# Altium footprint library Sheet.PcbLib: 48 footprints (part 2 of 3)
Each footprint in its own frame and in the unit in brackets; x right, y up, seen from the top. Pads: shape width x height; smd on the part's side, far side on the other; paste and mask are expansions set on the pad; w line width, h text height; cw(c..) or ccw(c..) is an arc to the next point about the centre after c.
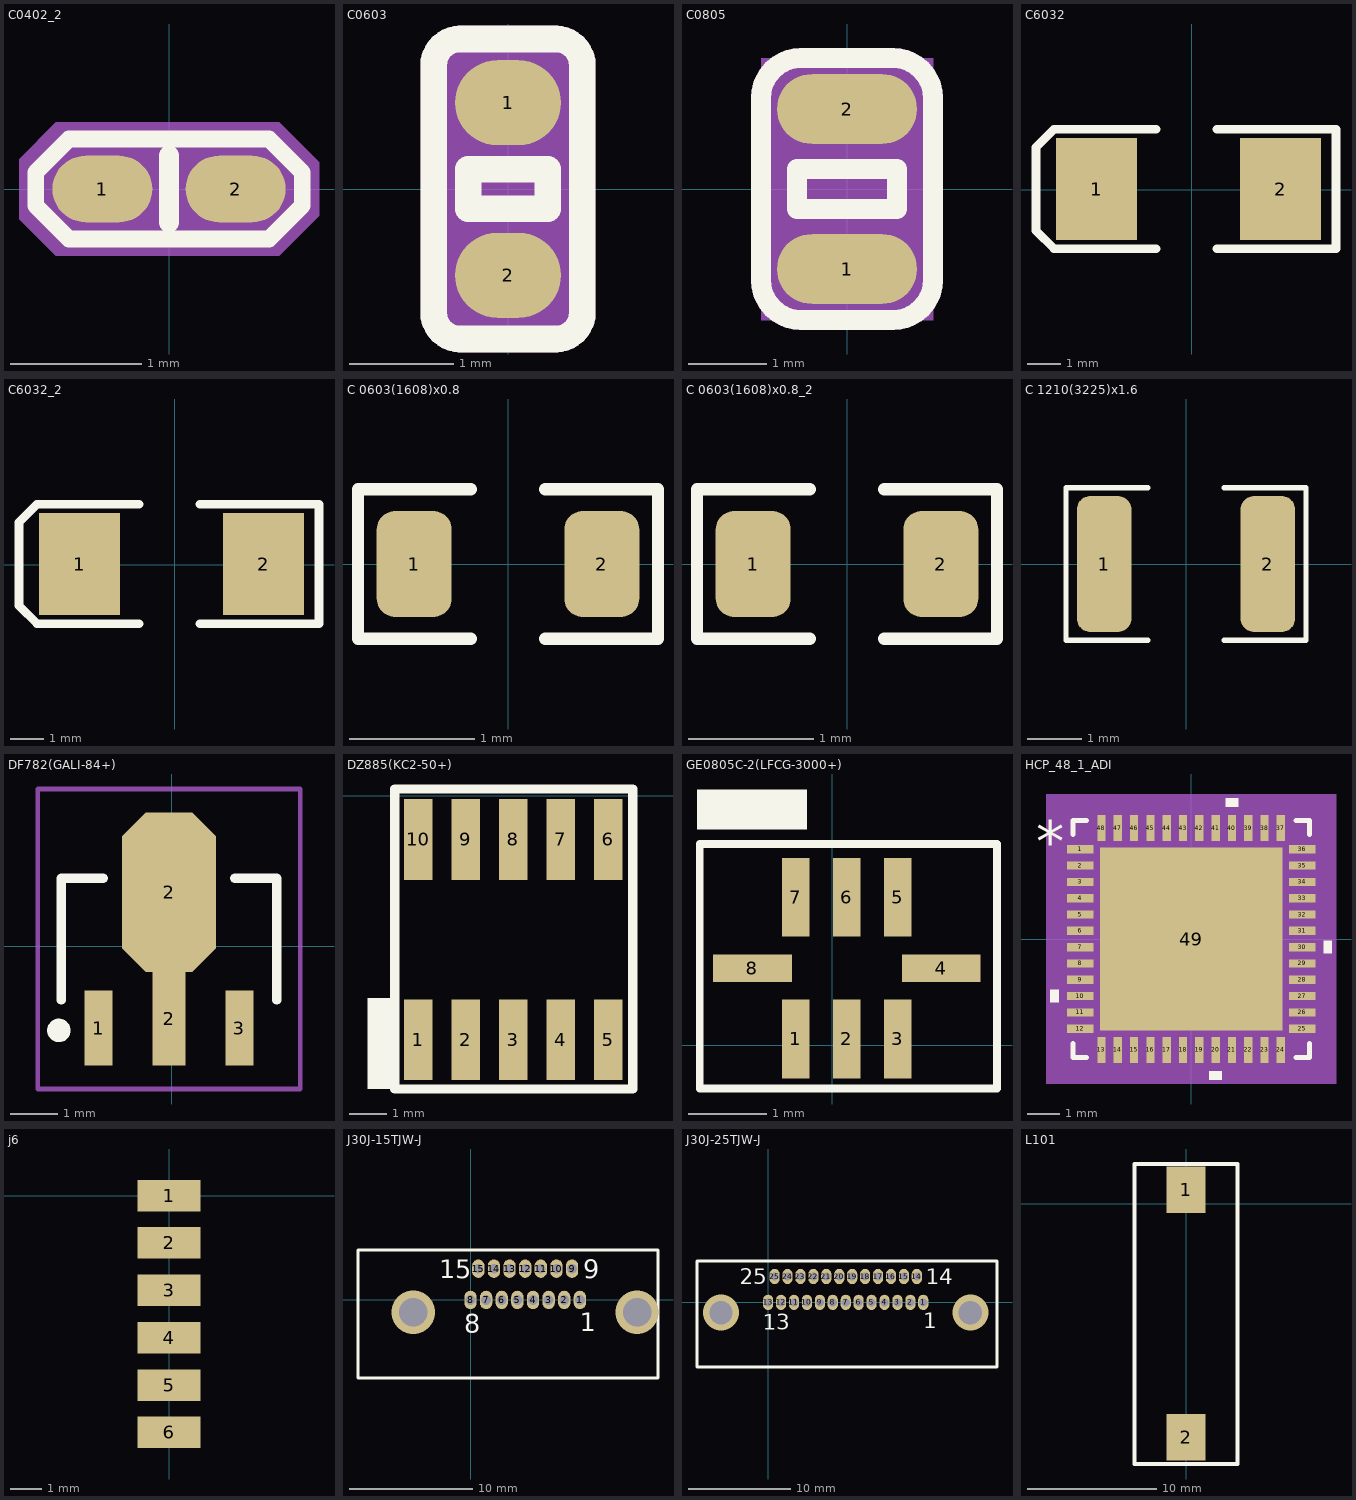
[diagram p1: the footprints below, top view; thin cyan lines are the x and y axes]

## C0402_2 [mil]
pads (2):
  oval 30x20 smd: 1(-20,0) 2(20,0)
Top Overlay:
  lines w5: -40,-5 -40,5 -30,15 30,15 40,5 40,-5 30,-15 -30,-15 -40,-5
  lines w6: 0,-10 0,10
Mechanical 5:
  lines w5: -37.5,-7.5 -40,-5 -40,5 -37.5,7.5 ; -32.5,-12.5 -30,-15 30,-15 32.5,-12.5 ; -32.5,12.5 -30,15 30,15 32.5,12.5 ; 37.5,-7.5 40,-5 40,5 37.5,7.5
  lines w6: 0,-10 0,10
Mechanical 14:
  text "1" at -10,0 h25
  text "2" at 30,0 h25
Mechanical 16:
  region: 29,-12 36,-5 36,12 -29,12 -37,4 -37,-4 -29,-12
  pour cut-out: -34,-20 33,-20 45,-8 45,8 33,20 -34,20 -45,9 -45,-9
  lines w1: -20,-10 -20,10 20,10 20,-10 -20,-10
  lines w5: -40,-5 -40,5 -30,15 30,15 40,5 40,-5 30,-15 -30,-15 -40,-5
  lines w6: 0,-10 0,10
3D body: height 150, standoff 0, extent -37,-12 36,12

## C0603 [mil] "C0603"
pads (2):
  oval 40x32 smd: 1(0,32.5) 2(0,-32.5)
Top Overlay:
  lines w10: -28,-46.5 ccw(c-18,-46.5) -18,-56.5 18,-56.5 ccw(c18,-46.5) 28,-46.5 28,46.5 ccw(c18,46.5) 18,56.5 -18,56.5 ccw(c-18,46.5) -28,46.5 -28,-46.5 ; -15,-7.5 15,-7.5 15,7.5 -15,7.5 -15,-7.5
Mechanical 5:
  lines w10: -28,-46.5 ccw(c-18,-46.5) -18,-56.5 18,-56.5 ccw(c18,-46.5) 28,-46.5 28,46.5 ccw(c18,46.5) 18,56.5 -18,56.5 ccw(c-18,46.5) -28,46.5 -28,-46.5 ; -15,-7.5 -15,7.5 15,7.5 15,-7.5 -15,-7.5
Mechanical 14:
  text "2" at 0,-21.3 h28
  text "1" at 0,43.7 h28
Mechanical 16:
  region: -17.13,-33.46 17.13,-33.46 17.13,33.46 -17.13,33.46
  pour cut-out: 28,56.5 28,-56.5 -28,-56.5 -28,56.5
  lines w1: -17.13,-33.46 17.13,-33.46 17.13,33.46 -17.13,33.46 -17.13,-33.46
3D body: height 150, standoff 0, extent -17.13,-33.46 17.13,33.46

## C0805 [mil] "C0805"
pads (2):
  oval 70x35 smd: 1(0,-40) 2(0,40)
Top Overlay:
  lines w10: -43,-45.5 ccw(c-23,-45.5) -23,-65.5 23,-65.5 ccw(c23,-45.5) 43,-45.5 43,45.5 ccw(c23,45.5) 23,65.5 -23,65.5 ccw(c-23,45.5) -43,45.5 -43,-45.5 ; -25,-10 -25,10 25,10 25,-10 -25,-10
Mechanical 5:
  lines w10: -39.99,-56.04 cw(c-23,-45.49) -43,-45.5 -43,45.5 cw(c-23,45.49) -39.99,56.04 ; -33.54,-62.49 ccw(c-22.99,-45.5) -23,-65.5 23,-65.5 ccw(c22.99,-45.5) 33.54,-62.49 ; -33.54,62.49 cw(c-22.99,45.5) -23,65.5 23,65.5 cw(c22.99,45.5) 33.54,62.49 ; 39.99,-56.04 ccw(c23,-45.49) 43,-45.5 43,45.5 ccw(c23,45.49) 39.99,56.04 ; -25,-10 25,-10 25,10 -25,10 -25,-10
Mechanical 14:
  text "2" at 0,28.8 h28
  text "1" at 0,-51.2 h28
Mechanical 16:
  pour cut-out: -43,-65.5 43,-65.5 43,65.5 -43,65.5
  region: -24.61,-39.37 24.61,-39.37 24.61,39.37 -24.61,39.37
  lines w1: -24.61,-39.37 -24.61,39.37 24.61,39.37 24.61,-39.37 -24.61,-39.37
3D body: height 150, standoff 0, extent -24.61,-39.37 24.61,39.37

## C6032 [mil]
height 98.43
pads (2):
  rect 95x120 smd: 1(-112,1) 2(104,1)
Top Overlay:
  lines w10: -42,-69 -156,-69 -162,-69 -183,-48 -183,50 -163,70 -162,71 -42,71 ; 29,-69 169,-69 169,71 29,71
3D body "TAJ-C.STEP": height 102.36, standoff 0, extent -121.11,-61.99 115.11,63.99

## C6032_2 [mil]
pads (2):
  rect 95x120 smd: 1(-112,1) 2(104,1)
Top Overlay:
  lines w10: -42,-69 -156,-69 -162,-69 -183,-48 -183,50 -163,70 -162,71 -42,71 ; 29,-69 169,-69 169,71 29,71
3D body "TAJ-C.STEP": height 102.36, standoff 0, extent -121.11,-61.99 115.11,63.99

## C 0603(1608)x0.8 [mm]
height 0.8
pads (2):
  rrect50% 0.6x0.85 smd: 1(-0.75,0) 2(0.75,0)
Top Overlay:
  lines w0.1: -0.3,-0.6 -1.2,-0.6 -1.2,0.6 -0.3,0.6 ; 0.3,-0.6 1.2,-0.6 1.2,0.6 0.3,0.6
3D body "Cap 0603(1608)x80N.STEP": height 0.81, standoff 0, extent -0.8,-0.4 0.8,0.4

## C 0603(1608)x0.8_2 [mm]
pads (2):
  rrect50% 0.6x0.85 smd: 1(-0.75,0) 2(0.75,0)
Top Overlay:
  lines w0.1: -0.3,-0.6 -1.2,-0.6 -1.2,0.6 -0.3,0.6 ; 0.3,-0.6 1.2,-0.6 1.2,0.6 0.3,0.6
3D body "Cap 0603(1608)x80N.STEP": height 0.81, standoff 0, extent -0.8,-0.4 0.8,0.4

## C 1210(3225)x1.6 [mm]
height 1.6
pads (2):
  rrect50% 1x2.5 smd: 1(-1.5,0) 2(1.5,0)
Top Overlay:
  lines w0.1: -0.7,-1.4 -2.2,-1.4 -2.2,1.4 -0.7,1.4 ; 0.7,-1.4 2.2,-1.4 2.2,1.4 0.7,1.4
3D body "Cap 1210(3225)x160N.STEP": height 1.61, standoff 0, extent -1.6,-1.25 1.6,1.25

## DF782(GALI-84+) [mm]
pads (4):
  rect 0.6x1.6 smd mask+0.02: 1(-1.559,-1.741) 3(1.441,-1.741)
  rect 0.7x2 smd mask+0.02: 2(-0.059,-1.541)
  oct 2x3.4 smd mask+0.02: 2(-0.059,1.159)
Top Overlay:
  circle w0.25: c-2.409,-1.791 r0.125
  lines w0.2: -2.359,-1.141 -2.359,1.459 -1.459,1.459 ; 1.341,1.459 2.241,1.459 2.241,-1.141
Mechanical 13:
  lines w0.1: -2.359,-1.141 -2.359,1.459 ; 2.241,-1.141 2.241,1.459
Mechanical 15:
  lines w0.1: -0.559,0.159 0.441,0.159 ; -0.059,-0.341 -0.059,0.659 ; -2.859,-3.041 2.741,-3.041 2.741,3.359 -2.859,3.359 -2.859,-3.041
3D body: height 1.6, standoff 0, extent -2.359,-1.141 2.241,1.459

## DZ885(KC2-50+) [mm]
pads (10):
  rect 0.76x2.16 smd: 1(6.26,-6.53) 2(7.53,-6.53) 3(8.8,-6.53) 4(10.07,-6.53) 5(11.34,-6.53) 6(11.34,-1.17) 7(10.07,-1.17) 8(8.8,-1.17) 9(7.53,-1.17) 10(6.26,-1.17)
Top Overlay:
  rectangle: 4.9,-7.85 5.63,-5.42
  lines w0.254: 5.63,-7.85 5.63,0.18 12,0.18 12,-7.85 5.63,-7.85

## GE0805C-2(LFCG-3000+) [mm]
pads (8):
  rect 0.35x1 smd mask+0.05: 1(-0.465,0.078) 2(0.185,0.078) 3(0.835,0.078) 5(0.835,1.878) 6(0.185,1.878) 7(-0.465,1.878)
  rect 1x0.35 smd mask+0.05: 4(1.385,0.978) 8(-1.015,0.978)
Top Overlay:
  rectangle: -1.72,2.74 -0.32,3.25
  lines w0.1: -1.685,-0.552 2.095,-0.552 2.095,2.558 -1.685,2.558 -1.685,-0.552

## HCP_48_1_ADI [mm]
pads (49):
  rect 0.805x0.254 smd paste+0 mask+0: 1(-3.402,2.75) 2(-3.402,2.25) 3(-3.402,1.75) 4(-3.402,1.25) 5(-3.402,0.75) 6(-3.402,0.25) 7(-3.402,-0.25) 8(-3.402,-0.75) 9(-3.402,-1.25) 10(-3.402,-1.75) 11(-3.402,-2.25) 12(-3.402,-2.75) 25(3.402,-2.75) 26(3.402,-2.25) 27(3.402,-1.75) 28(3.402,-1.25) 29(3.402,-0.75) 30(3.402,-0.25) 31(3.402,0.25) 32(3.402,0.75) 33(3.402,1.25) 34(3.402,1.75) 35(3.402,2.25) 36(3.402,2.75)
  rect 0.254x0.805 smd paste+0 mask+0: 13(-2.75,-3.402) 14(-2.25,-3.402) 15(-1.75,-3.402) 16(-1.25,-3.402) 17(-0.75,-3.402) 18(-0.25,-3.402) 19(0.25,-3.402) 20(0.75,-3.402) 21(1.25,-3.402) 22(1.75,-3.402) 23(2.25,-3.402) 24(2.75,-3.402) 37(2.75,3.402) 38(2.25,3.402) 39(1.75,3.402) 40(1.25,3.402) 41(0.75,3.402) 42(0.25,3.402) 43(-0.25,3.402) 44(-0.75,3.402) 45(-1.25,3.402) 46(-1.75,3.402) 47(-2.25,3.402) 48(-2.75,3.402)
  rect 5.6x5.6 smd paste-2.787 mask+0: 49(0,0)
Top Overlay:
  region: -4.059,-1.559 -4.313,-1.559 -4.313,-1.94 -4.059,-1.94
  region: 0.941,-4.059 0.56,-4.059 0.56,-4.313 0.941,-4.313
  region: 4.059,-0.059 4.313,-0.059 4.313,-0.44 4.059,-0.44
  region: 1.441,4.059 1.06,4.059 1.06,4.313 1.441,4.313
  lines w0.152: -3.627,-3.21 -3.627,-3.627 -3.21,-3.627 ; -3.627,3.21 -3.627,3.627 -3.21,3.627 ; 3.21,-3.627 3.627,-3.627 3.627,-3.21 ; 3.21,3.627 3.627,3.627 3.627,3.21
  text "*" at -4.757,2.365 h1.27
Top Paste:
  region: -1.5,2.7 -2.7,2.7 -2.7,1.5 -1.5,1.5
  region: -1.5,1.3 -2.7,1.3 -2.7,0.1 -1.5,0.1
  region: -1.5,-0.1 -2.7,-0.1 -2.7,-1.3 -1.5,-1.3
  region: -1.5,-1.5 -2.7,-1.5 -2.7,-2.7 -1.5,-2.7
  region: -0.1,2.7 -1.3,2.7 -1.3,1.5 -0.1,1.5
  region: -0.1,1.3 -1.3,1.3 -1.3,0.1 -0.1,0.1
  region: -0.1,-0.1 -1.3,-0.1 -1.3,-1.3 -0.1,-1.3
  region: -0.1,-1.5 -1.3,-1.5 -1.3,-2.7 -0.1,-2.7
  region: 1.3,2.7 0.1,2.7 0.1,1.5 1.3,1.5
  region: 1.3,1.3 0.1,1.3 0.1,0.1 1.3,0.1
  region: 1.3,-0.1 0.1,-0.1 0.1,-1.3 1.3,-1.3
  region: 1.3,-1.5 0.1,-1.5 0.1,-2.7 1.3,-2.7
  region: 2.7,2.7 1.5,2.7 1.5,1.5 2.7,1.5
  region: 2.7,1.3 1.5,1.3 1.5,0.1 2.7,0.1
  region: 2.7,-0.1 1.5,-0.1 1.5,-1.3 2.7,-1.3
  region: 2.7,-1.5 1.5,-1.5 1.5,-2.7 2.7,-2.7
Mechanical 5:
  region: 4.44,-4.44 -4.44,-4.44 -4.44,4.44 4.44,4.44
Mechanical 13:
  lines w0.025: -3.5,2.23 -2.23,3.5 ; -3.5,-3.5 3.5,-3.5 3.5,3.5 -3.5,3.5 -3.5,-3.5 ; -3.5,-2.902 -3.5,-2.598 -3.5,-2.902 ; -3.5,-2.402 -3.5,-2.098 -3.5,-2.402 ; -3.5,-1.902 -3.5,-1.598 -3.5,-1.902 ; -3.5,-1.402 -3.5,-1.098 -3.5,-1.402 ; -3.5,-0.902 -3.5,-0.598 -3.5,-0.902 ; -3.5,-0.402 -3.5,-0.098 -3.5,-0.402 ; -3.5,0.098 -3.5,0.402 -3.5,0.098 ; -3.5,0.598 -3.5,0.902 -3.5,0.598 ; -3.5,1.098 -3.5,1.402 -3.5,1.098 ; -3.5,1.598 -3.5,1.902 -3.5,1.598 ; -3.5,2.098 -3.5,2.402 -3.5,2.098 ; -3.5,2.598 -3.5,2.902 -3.5,2.598 ; -2.902,-3.5 -2.598,-3.5 -2.902,-3.5 ; -2.902,3.5 -2.598,3.5 -2.902,3.5 ; -2.402,-3.5 -2.098,-3.5 -2.402,-3.5 ; -2.402,3.5 -2.098,3.5 -2.402,3.5 ; -1.902,-3.5 -1.598,-3.5 -1.902,-3.5 ; -1.902,3.5 -1.598,3.5 -1.902,3.5 ; -1.402,-3.5 -1.098,-3.5 -1.402,-3.5 ; -1.402,3.5 -1.098,3.5 -1.402,3.5 ; -0.902,-3.5 -0.598,-3.5 -0.902,-3.5 ; -0.902,3.5 -0.598,3.5 -0.902,3.5 ; -0.402,-3.5 -0.098,-3.5 -0.402,-3.5 ; -0.402,3.5 -0.098,3.5 -0.402,3.5 ; 0.098,-3.5 0.402,-3.5 0.098,-3.5 ; 0.098,3.5 0.402,3.5 0.098,3.5 ; 0.598,-3.5 0.902,-3.5 0.598,-3.5 ; 0.598,3.5 0.902,3.5 0.598,3.5 ; 1.098,-3.5 1.402,-3.5 1.098,-3.5 ; 1.098,3.5 1.402,3.5 1.098,3.5 ; 1.598,-3.5 1.902,-3.5 1.598,-3.5 ; 1.598,3.5 1.902,3.5 1.598,3.5 ; 2.098,-3.5 2.402,-3.5 2.098,-3.5 ; 2.098,3.5 2.402,3.5 2.098,3.5 ; 2.598,-3.5 2.902,-3.5 2.598,-3.5 ; 2.598,3.5 2.902,3.5 2.598,3.5 ; 3.5,-2.902 3.5,-2.598 3.5,-2.902 ; 3.5,-2.402 3.5,-2.098 3.5,-2.402 ; 3.5,-1.902 3.5,-1.598 3.5,-1.902 ; 3.5,-1.402 3.5,-1.098 3.5,-1.402 ; 3.5,-0.902 3.5,-0.598 3.5,-0.902 ; 3.5,-0.402 3.5,-0.098 3.5,-0.402 ; 3.5,0.098 3.5,0.402 3.5,0.098 ; 3.5,0.598 3.5,0.902 3.5,0.598 ; 3.5,1.098 3.5,1.402 3.5,1.098 ; 3.5,1.598 3.5,1.902 3.5,1.598 ; 3.5,2.098 3.5,2.402 3.5,2.098 ; 3.5,2.598 3.5,2.902 3.5,2.598
  text "*" at -3.317,2.365 h1.27
Mechanical 15:
  region: -3.131,-3.754 -3.754,-3.754 -3.754,-3.131 -4.059,-3.131 -4.059,3.131 -3.754,3.131 -3.754,3.754 -3.131,3.754 -3.131,4.059 3.131,4.059 3.131,3.754 3.754,3.754 3.754,3.131 4.059,3.131 4.059,-3.131 3.754,-3.131 3.754,-3.754 3.131,-3.754 3.131,-4.059 -3.131,-4.059
  lines w0.152: -4.059,-3.131 -3.754,-3.131 -3.754,-3.754 -3.131,-3.754 -3.131,-4.059 3.131,-4.059 3.131,-3.754 3.754,-3.754 3.754,-3.131 4.059,-3.131 4.059,3.131 3.754,3.131 3.754,3.754 3.131,3.754 3.131,4.059 -3.131,4.059 -3.131,3.754 -3.754,3.754 -3.754,3.131 -4.059,3.131 -4.059,-3.131
3D body "HCP_48_1_ADI.step": height 0.9, standoff 0, extent -3.5,-3.5 3.5,3.5

## j6 [mm]
height 1.2
pads (6):
  rect 2x1 smd: 1(0,0) 2(0,-1.5) 3(0,-3) 4(0,-4.5) 5(0,-6) 6(0,-7.5)

## J30J-15TJW-J [mm]
pads (15):
  oval 1x1.5 hole 0.8: 1(8.89,0) 2(7.62,0) 3(6.35,0) 4(5.08,0) 5(3.81,0) 6(2.54,0) 7(1.27,0) 8(0,0) 9(8.255,2.54) 10(6.985,2.54) 11(5.715,2.54) 12(4.445,2.54) 13(3.175,2.54) 14(1.905,2.54) 15(0.635,2.54)
via -4.655,-1 diameter 3.5 hole 2.3
via 13.545,-1 diameter 3.5 hole 2.3
Top Overlay:
  lines w0.254: -9.144,-6.35 -9.144,4.064 15.24,4.064 15.24,-6.35 -9.144,-6.35
  text "1" at 8.89,-2.54 h1.52
  text "8" at -0.508,-2.667 h1.52
  text "15" at -2.54,1.778 h1.52
  text "9" at 9.144,1.778 h1.52

## J30J-25TJW-J [mm]
pads (25):
  oval 1x1.5 hole 0.8: 1(15.24,0) 2(13.97,0) 3(12.7,0) 4(11.43,0) 5(10.16,0) 6(8.89,0) 7(7.62,0) 8(6.35,0) 9(5.08,0) 10(3.81,0) 11(2.54,0) 12(1.27,0) 13(0,0) 14(14.605,2.54) 15(13.335,2.54) 16(12.065,2.54) 17(10.795,2.54) 18(9.525,2.54) 19(8.255,2.54) 20(6.985,2.54) 21(5.715,2.54) 22(4.445,2.54) 23(3.175,2.54) 24(1.905,2.54) 25(0.635,2.54)
via 19.87,-1 diameter 3.5 hole 2.3
via -4.63,-1 diameter 3.5 hole 2.3
Top Overlay:
  lines w0.254: -6.985,-6.35 22.479,-6.35 22.479,4.064 -6.985,4.064 -6.985,-6.35
  text "14" at 15.494,1.778 h1.52
  text "25" at -2.794,1.778 h1.52
  text "13" at -0.508,-2.667 h1.52
  text "1" at 15.24,-2.54 h1.52

## L101 [mm]
height 0.8
pads (2):
  rect 3x3.6 smd: 1(0,1.067) 2(0,-18.133)
Top Overlay:
  lines w0.3: -4,-20.193 4,-20.193 4,3.067 -4,3.067 -4,-20.193